# Altium footprint library LPEDT_Parts.PcbLib: 31 footprints (part 2 of 2)
Each footprint in its own frame and in the unit in brackets; x right, y up, seen from the top. Pads: shape width x height; smd on the part's side, far side on the other; paste and mask are expansions set on the pad; w line width, h text height; cw(c..) or ccw(c..) is an arc to the next point about the centre after c.
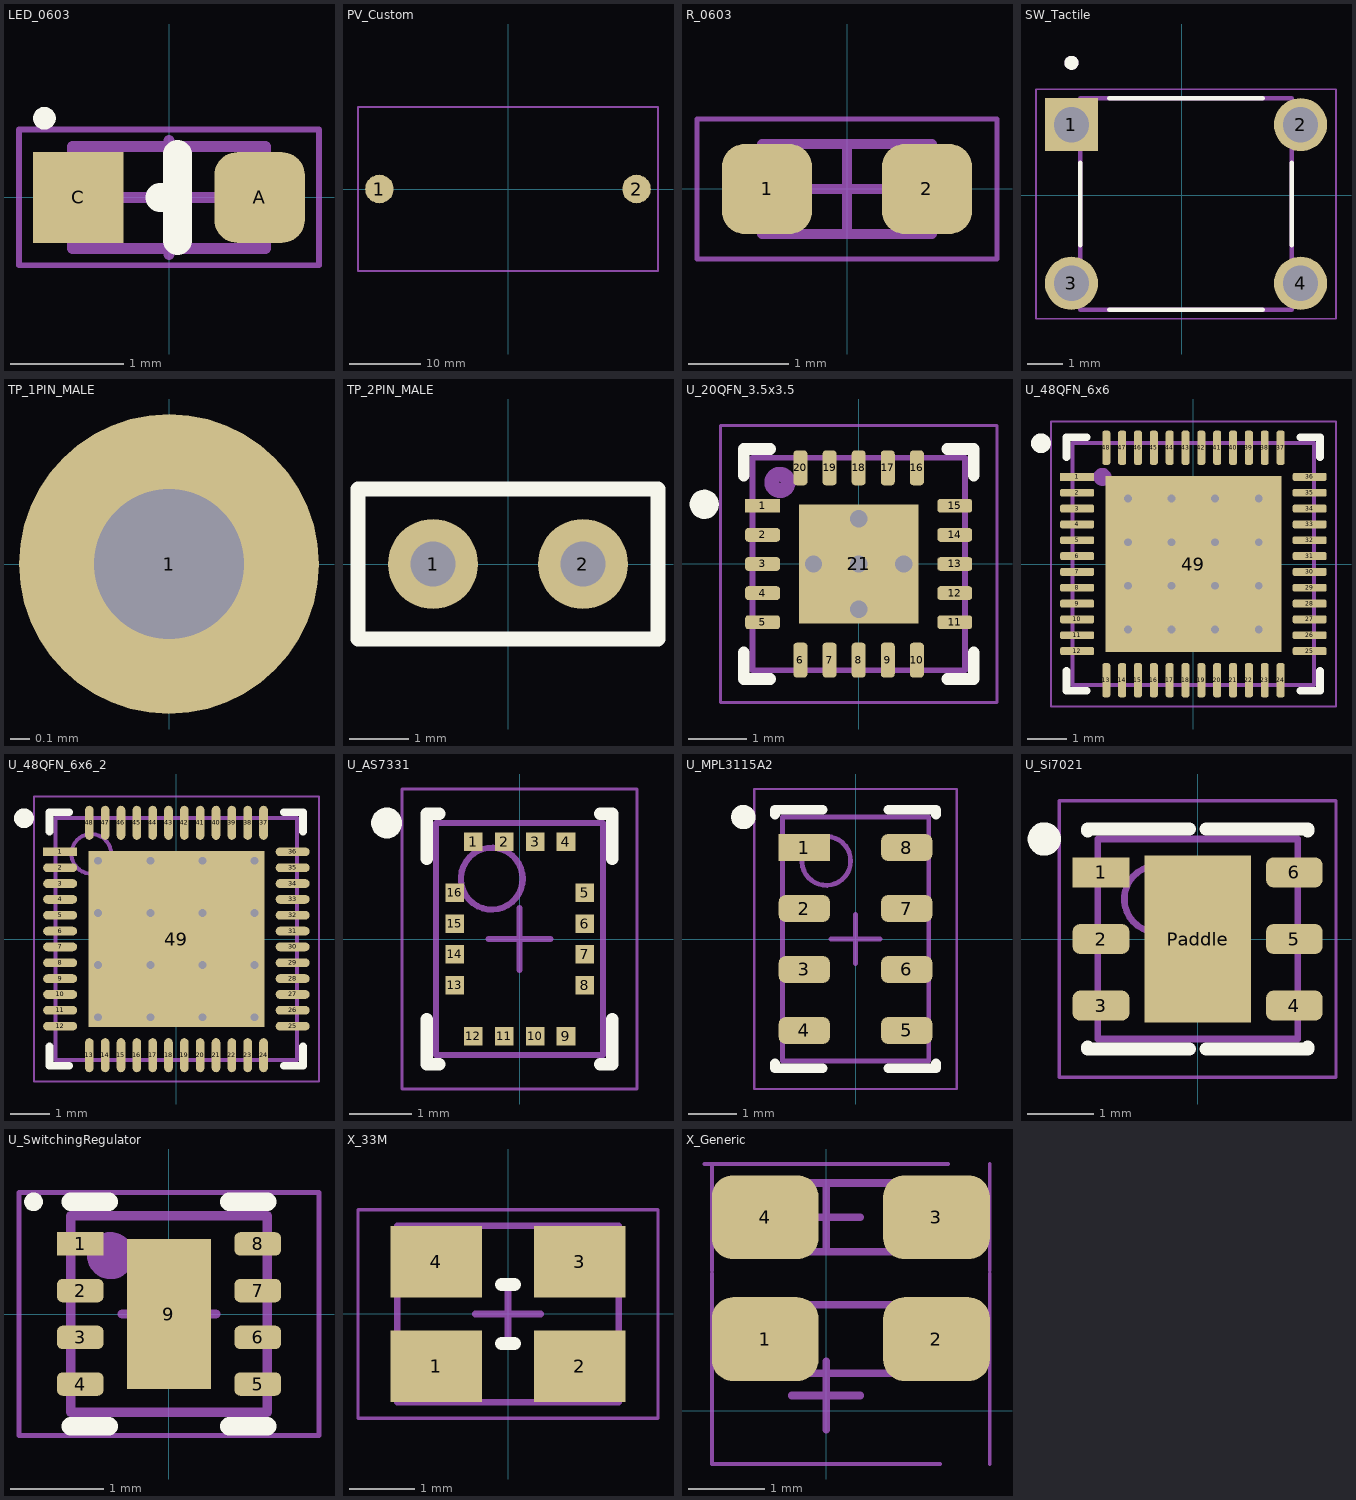
[diagram p1: the footprints below, top view; thin cyan lines are the x and y axes]

## LED_0603 [mm] "SODFL, 2-Leads, Body 0.80x1.80mm, IPC Medium Density"
height 0.8
pads (2):
  rrect50% 0.8x0.8 smd mask+0.06: A(0.8,0)
  rect 0.8x0.8 smd mask+0.06: C(-0.8,0)
Top Overlay:
  circle w0.1: c-1.1,0.7 r0.05
  lines w0.254: -0.079,0 0.076,0 0.076,0.381 0.076,-0.381
Mechanical 13:
  lines w0.1: -0.85,-0.45 0.85,-0.45 0.85,0.45 -0.85,0.45 -0.85,-0.45
  text ".Designator" at -0.723,-0.254 h0.5
Mechanical 15:
  lines w0.05: -1.325,-0.6 1.325,-0.6 1.325,0.6 -1.325,0.6 -1.325,-0.6
  lines w0.1: -0.5,0 0.5,0 ; 0,-0.5 0,0.5
3D body "LED_0603_WURTH_WL-SMCW_base.step": height 0.65, standoff 0.01, extent -0.8,-0.4 0.8,0.4
3D body "LED_0603_WURTH_WL-SMCW_lens.step": height 0.71, standoff 0.31, extent -0.55,-0.4 0.55,0.4

## PV_Custom [mm] "Solar Panel"
height 1
pads (2):
  round 4 smd: 1(-18,0) 2(18,0)
Mechanical 1:
  lines w0.254: -21,0 -21,11.5 ; -21,11.5 -21,-11.5 21,-11.5 21,11.5 -21,11.5

## R_0603 [mm] "Chip Resistor, 2-Leads, Body 1.60x0.80mm, IPC Medium Density"
height 0.55
pads (2):
  rrect50% 0.9x0.9 smd: 1(-0.8,0) 2(0.8,0)
Mechanical 1:
  text ".Designator" at -0.635,-0.254 h0.4
Mechanical 13:
  lines w0.1: -0.85,-0.45 -0.85,0.45 0.85,0.45 0.85,-0.45 -0.85,-0.45
Mechanical 15:
  lines w0.05: -1.5,-0.7 -1.5,0.7 1.5,0.7 1.5,-0.7 -1.5,-0.7
  lines w0.1: -0.45,0 0.45,0 ; 0,-0.45 0,0.45
3D body "0603_1608X05N.step": height 0.45, standoff 0, extent -0.775,-0.425 0.775,0.425

## SW_Tactile [mm] "Tactile, 4-pin pushbutton w/ through hole leads"
pads (4):
  rect 1.508x1.508 / inner round 1.508 / far side rect 1.508x1.508 hole 1: 1(-3.123,1.996)
  round 1.508 hole 1: 2(3.377,1.996) 3(-3.123,-2.504) 4(3.377,-2.504)
Top Overlay:
  circle w0.2: c-3.123,3.75 r0.1
  lines w0.127: -2.873,-1.43 -2.873,0.922 ; -2.049,-3.254 2.303,-3.254 ; -2.049,2.746 2.303,2.746 ; 3.127,-1.43 3.127,0.922
Mechanical 13:
  circle w0.2: c-3.123,3.75 r0.1
  lines w0.127: -2.873,-3.254 -2.873,2.746 3.127,2.746 3.127,-3.254 -2.873,-3.254
  text ".Designator" at -2.286,-1.778 h1.52
Mechanical 15:
  lines w0.05: -4.127,-3.508 4.381,-3.508 4.381,3 -4.127,3 -4.127,-3.508

## TP_1PIN_MALE [mil] "200 mil hole"
pads (1):
  round 60 hole 30: 1(0,0)

## TP_2PIN_MALE [mil] "2-pin, standard male header, 2.54mm pitch"
pads (2):
  round 60 hole 30: 1(-50,0) 2(50,0)
Top Overlay:
  lines w10: -100,-50 -100,50 100,50 100,-50 -100,-50
3D body "61300211121.step": height 286.22, standoff -168.11, extent -100,-50 100,50

## U_20QFN_3.5x3.5 [mm] "QFN Buckboost"
height 1
pads (21):
  rect 0.6x0.24 smd mask+0.07: 1(-1.65,1)
  rrect50% 0.6x0.24 smd mask+0.07: 2(-1.65,0.5) 3(-1.65,0) 4(-1.65,-0.5) 5(-1.65,-1) 11(1.65,-1) 12(1.65,-0.5) 13(1.65,0) 14(1.65,0.5) 15(1.65,1)
  rrect50% 0.24x0.6 smd mask+0.07: 6(-1,-1.65) 7(-0.5,-1.65) 8(0,-1.65) 9(0.5,-1.65) 10(1,-1.65) 16(1,1.65) 17(0.5,1.65) 18(0,1.65) 19(-0.5,1.65) 20(-1,1.65)
  rect 2.05x2.05 smd paste-1 mask+0.07: 21(0,0)
via -0.775,0 diameter 0.5 hole 0.3
via 0,0 diameter 0.5 hole 0.3
via 0,-0.775 diameter 0.5 hole 0.3
via 0.775,0 diameter 0.5 hole 0.3
via 0,0.775 diameter 0.5 hole 0.3
Top Overlay:
  circle w0.25: c-2.65,1.025 r0.125
  lines w0.2: -1.975,-1.52 -1.975,-1.975 -1.52,-1.975 ; -1.975,1.52 -1.975,1.975 -1.52,1.975 ; 1.52,-1.975 1.975,-1.975 1.975,-1.52 ; 1.52,1.975 1.975,1.975 1.975,1.52
Top Paste:
  rectangle: 0.25,0.25 1.02,1.02
  rectangle: 0.25,-1.02 1.02,-0.25
  rectangle: -1.02,0.25 -0.25,1.02
  rectangle: -1.02,-1.02 -0.25,-0.25
Mechanical 13:
  circle w0.254: c-1.35,1.4 r0.141
  lines w0.1: -1.825,-1.825 1.825,-1.825 1.825,1.825 -1.825,1.825 -1.825,-1.825
  text ".Designator" at -1.43,-1.438 h0.65
Mechanical 15:
  lines w0.05: -2.375,-2.375 2.375,-2.375 2.375,2.375 -2.375,2.375 -2.375,-2.375
  lines w0.1: -0.5,0 0.5,0 ; 0,-0.5 0,0.5
3D body "20-QFN_5x5.step": height 1, standoff 0, extent -1.826,-1.826 1.826,1.826

## U_48QFN_6x6 [mm] "QFN, 48-Leads, Body 6.00x6.00mm, Pitch 0.40mm, Thermal Pad 4.45x4.45mm, IPC Medium Density"
height 0.9
pads (49):
  rect 0.86x0.2 smd mask+0.06: 1(-2.935,2.2)
  rrect50% 0.86x0.2 smd mask+0.06: 2(-2.935,1.8) 3(-2.935,1.4) 4(-2.935,1) 5(-2.935,0.6) 6(-2.935,0.2) 7(-2.935,-0.2) 8(-2.935,-0.6) 9(-2.935,-1) 10(-2.935,-1.4) 11(-2.935,-1.8) 12(-2.935,-2.2) 25(2.935,-2.2) 26(2.935,-1.8) 27(2.935,-1.4) 28(2.935,-1) 29(2.935,-0.6) 30(2.935,-0.2) 31(2.935,0.2) 32(2.935,0.6) 33(2.935,1) 34(2.935,1.4) 35(2.935,1.8) 36(2.935,2.2)
  rrect50% 0.2x0.86 smd mask+0.06: 13(-2.2,-2.935) 14(-1.8,-2.935) 15(-1.4,-2.935) 16(-1,-2.935) 17(-0.6,-2.935) 18(-0.2,-2.935) 19(0.2,-2.935) 20(0.6,-2.935) 21(1,-2.935) 22(1.4,-2.935) 23(1.8,-2.935) 24(2.2,-2.935) 37(2.2,2.935) 38(1.8,2.935) 39(1.4,2.935) 40(1,2.935) 41(0.6,2.935) 42(0.2,2.935) 43(-0.2,2.935) 44(-0.6,2.935) 45(-1,2.935) 46(-1.4,2.935) 47(-1.8,2.935) 48(-2.2,2.935)
  rect 4.45x4.45 smd: 49(0,0)
via 1.65,-1.65 diameter 0.5 hole 0.2
via 0.55,-1.65 diameter 0.5 hole 0.2
via -0.55,-1.65 diameter 0.5 hole 0.2
via -1.65,-1.65 diameter 0.5 hole 0.2
via 1.65,-0.55 diameter 0.5 hole 0.2
via 0.55,-0.55 diameter 0.5 hole 0.2
via -0.55,-0.55 diameter 0.5 hole 0.2
via -1.65,-0.55 diameter 0.5 hole 0.2
via 1.65,0.55 diameter 0.5 hole 0.2
via 0.55,0.55 diameter 0.5 hole 0.2
via -0.55,0.55 diameter 0.5 hole 0.2
via -1.65,0.55 diameter 0.5 hole 0.2
via 1.65,1.65 diameter 0.5 hole 0.2
via 0.55,1.65 diameter 0.5 hole 0.2
via -0.55,1.65 diameter 0.5 hole 0.2
via -1.65,1.65 diameter 0.5 hole 0.2
Top Overlay:
  circle w0.25: c-3.85,3.05 r0.125
  lines w0.2: -3.2,-2.7 -3.2,-3.2 -2.7,-3.2 ; -3.2,2.7 -3.2,3.2 -2.7,3.2 ; 2.7,-3.2 3.2,-3.2 3.2,-2.7 ; 2.7,3.2 3.2,3.2 3.2,2.7
Mechanical 13:
  circle w0.254: c-2.3,2.2 r0.1
  lines w0.1: -3.05,-3.05 3.05,-3.05 3.05,3.05 -3.05,3.05 -3.05,-3.05
  text ".Designator" at -2.68,-2.663 h0.65
Mechanical 15:
  lines w0.05: -3.6,-3.6 3.6,-3.6 3.6,3.6 -3.6,3.6 -3.6,-3.6
  lines w0.1: -0.5,0 0.5,0 ; 0,-0.5 0,0.5
3D body: height 0.9, standoff 0, extent -3.05,-3.05 3.05,3.05

## U_48QFN_6x6_2 [mm]
height 0.9
pads (49):
  rect 0.86x0.22 smd mask+0.04: 1(-2.935,2.2)
  oval 0.86x0.22 smd mask+0.04: 2(-2.935,1.8) 3(-2.935,1.4) 4(-2.935,1) 5(-2.935,0.6) 6(-2.935,0.2) 7(-2.935,-0.2) 8(-2.935,-0.6) 9(-2.935,-1) 10(-2.935,-1.4) 11(-2.935,-1.8) 12(-2.935,-2.2) 25(2.935,-2.2) 26(2.935,-1.8) 27(2.935,-1.4) 28(2.935,-1) 29(2.935,-0.6) 30(2.935,-0.2) 31(2.935,0.2) 32(2.935,0.6) 33(2.935,1) 34(2.935,1.4) 35(2.935,1.8) 36(2.935,2.2)
  oval 0.22x0.86 smd mask+0.04: 13(-2.2,-2.935) 14(-1.8,-2.935) 15(-1.4,-2.935) 16(-1,-2.935) 17(-0.6,-2.935) 18(-0.2,-2.935) 19(0.2,-2.935) 20(0.6,-2.935) 21(1,-2.935) 22(1.4,-2.935) 23(1.8,-2.935) 24(2.2,-2.935) 37(2.2,2.935) 38(1.8,2.935) 39(1.4,2.935) 40(1,2.935) 41(0.6,2.935) 42(0.2,2.935) 43(-0.2,2.935) 44(-0.6,2.935) 45(-1,2.935) 46(-1.4,2.935) 47(-1.8,2.935) 48(-2.2,2.935)
  rect 4.45x4.45 smd paste-2539.97 mask+0.04: 49(0,0)
via -1.975,1.975 diameter 0.5 hole 0.2
via -0.658,1.975 diameter 0.5 hole 0.2
via 0.658,1.975 diameter 0.5 hole 0.2
via 1.975,1.975 diameter 0.5 hole 0.2
via -1.975,0.658 diameter 0.5 hole 0.2
via -0.658,0.658 diameter 0.5 hole 0.2
via 0.658,0.658 diameter 0.5 hole 0.2
via 1.975,0.658 diameter 0.5 hole 0.2
via -1.975,-0.658 diameter 0.5 hole 0.2
via -0.658,-0.658 diameter 0.5 hole 0.2
via 0.658,-0.658 diameter 0.5 hole 0.2
via 1.975,-0.658 diameter 0.5 hole 0.2
via -1.975,-1.975 diameter 0.5 hole 0.2
via -0.658,-1.975 diameter 0.5 hole 0.2
via 0.658,-1.975 diameter 0.5 hole 0.2
via 1.975,-1.975 diameter 0.5 hole 0.2
Top Overlay:
  circle w0.25: c-3.85,3.05 r0.125
  lines w0.2: -3.2,-2.71 -3.2,-3.2 -2.71,-3.2 ; -3.2,2.71 -3.2,3.2 -2.71,3.2 ; 2.71,-3.2 3.2,-3.2 3.2,-2.71 ; 2.71,3.2 3.2,3.2 3.2,2.71
Top Paste:
  rectangle: 0.835,-1.799 1.799,-0.835
  rectangle: -0.482,-1.799 0.482,-0.835
  rectangle: -1.798,-1.799 -0.835,-0.835
  rectangle: 0.835,-0.482 1.799,0.482
  rectangle: -0.482,-0.482 0.482,0.482
  rectangle: -1.798,-0.482 -0.835,0.482
  rectangle: 0.835,0.835 1.799,1.799
  rectangle: -0.482,0.835 0.482,1.799
  rectangle: -1.798,0.835 -0.835,1.798
Mechanical 13:
  circle w0.1: c-2.15,2.15 r0.5
  lines w0.1: -3.05,-3.05 -3.05,3.05 3.05,3.05 3.05,-3.05 -3.05,-3.05
  text ".Designator" at -2.725,-2.187 h3.25
Mechanical 15:
  lines w0.05: -3.6,-3.6 -3.6,3.6 3.6,3.6 3.6,-3.6 -3.6,-3.6
  lines w0.1: -0.5,0 0.5,0 ; 0,-0.5 0,0.5
3D body: height 0.9, standoff 0, extent -3.05,-3.05 3.05,3.05

## U_AS7331 [mm] "QFN, 16-Leads, Body 2.60x3.65mm, Pitch 0.50mm, IPC Medium Density"
height 1.19
pads (16):
  rect 0.3x0.3 smd mask+0.048: 1(-0.75,1.575) 2(-0.25,1.575) 3(0.25,1.575) 4(0.75,1.575) 5(1.05,0.75) 6(1.05,0.25) 7(1.05,-0.25) 8(1.05,-0.75) 9(0.75,-1.575) 10(0.25,-1.575) 11(-0.25,-1.575) 12(-0.75,-1.575) 13(-1.05,-0.75) 14(-1.05,-0.25) 15(-1.05,0.25) 16(-1.05,0.75)
Top Overlay:
  circle w0.25: c-2.15,1.875 r0.125
  lines w0.2: -1.5,-1.3 -1.5,-2.025 -1.3,-2.025 ; -1.5,1.3 -1.5,2.025 -1.3,2.025 ; 1.3,-2.025 1.5,-2.025 1.5,-1.3 ; 1.3,2.025 1.5,2.025 1.5,1.3
Mechanical 13:
  circle w0.1: c-0.45,0.975 r0.5
  lines w0.1: -1.35,-1.875 -1.35,1.875 1.35,1.875 1.35,-1.875 -1.35,-1.875
  text ".Designator" at -1.098,-1.298 h0.9
Mechanical 15:
  lines w0.05: -1.9,-2.425 -1.9,2.425 1.9,2.425 1.9,-2.425 -1.9,-2.425
  lines w0.1: -0.5,0 0.5,0 ; 0,-0.5 0,0.5
3D body "U_AS7331.step": height 1.19, standoff 0, extent -1.35,-1.875 1.35,1.875

## U_MPL3115A2 [mm] "QFN, 8-Leads, Body 3.00x5.00mm, Pitch 0.00mm/1.25mm, IPC Medium Density"
height 1.1
pads (8):
  rect 1.05x0.55 smd mask+0.07: 1(-1.05,1.875)
  rrect50% 1.05x0.55 smd mask+0.07: 2(-1.05,0.625) 3(-1.05,-0.625) 4(-1.05,-1.875) 5(1.05,-1.875) 6(1.05,-0.625) 7(1.05,0.625) 8(1.05,1.875)
Top Overlay:
  circle w0.25: c-2.3,2.5 r0.125
  lines w0.2: -1.65,-2.55 -1.65,-2.65 -0.675,-2.65 ; -1.65,2.55 -1.65,2.65 -0.675,2.65 ; 0.675,-2.65 1.65,-2.65 1.65,-2.55 ; 0.675,2.65 1.65,2.65 1.65,2.55
Mechanical 13:
  circle w0.1: c-0.6,1.6 r0.5
  lines w0.1: -1.5,-2.5 -1.5,2.5 1.5,2.5 1.5,-2.5 -1.5,-2.5
  text ".Designator" at -1.098,-1.823 h0.9
Mechanical 15:
  lines w0.05: -2.075,-3.075 -2.075,3.075 2.075,3.075 2.075,-3.075 -2.075,-3.075
  lines w0.1: -0.5,0 0.5,0 ; 0,-0.5 0,0.5
3D body "U_MPL3115A2.step": height 1.1, standoff 0, extent -1.5,-2.5 1.5,2.5

## U_Si7021 [mm] "QFN, 6-Leads, Body 3.00x3.00mm, Pitch 1.00mm, Thermal Pad 1.60x2.50mm, IPC Medium Density"
height 1.21
pads (7):
  rect 0.85x0.45 smd mask+0.062: 1(-1.45,1)
  rrect50% 0.85x0.45 smd mask+0.062: 2(-1.45,0) 3(-1.45,-1) 4(1.45,-1) 5(1.45,0) 6(1.45,1)
  rect 1.6x2.5 smd mask+0.062: Paddle(0,0)
Top Overlay:
  circle w0.25: c-2.3,1.5 r0.125
  lines w0.2: -1.65,-1.625 -1.65,-1.65 -0.125,-1.65 ; -1.65,1.625 -1.65,1.65 -0.125,1.65 ; 0.125,-1.65 1.65,-1.65 1.65,-1.625 ; 0.125,1.65 1.65,1.65 1.65,1.625
Mechanical 13:
  circle w0.1: c-0.6,0.6 r0.5
  lines w0.1: -1.5,-1.5 1.5,-1.5 1.5,1.5 -1.5,1.5 -1.5,-1.5
  text ".Designator" at -1.223,-0.923 h0.9
Mechanical 15:
  lines w0.05: -2.075,-2.075 2.075,-2.075 2.075,2.075 -2.075,2.075 -2.075,-2.075
  lines w0.1: -0.5,0 0.5,0 ; 0,-0.5 0,0.5
3D body "U_Si7021.step": height 1.21, standoff 0, extent -1.5,-1.5 1.5,1.5

## U_SwitchingRegulator [mm] "DFN, 8-Leads, Body 2.00x2.00mm, Pitch 0.50mm, Thermal Pad 1.60x0.69mm, IPC Medium Density"
height 0.8
pads (9):
  rect 0.5x0.25 smd: 1(-0.95,0.75)
  rrect50% 0.5x0.25 smd: 2(-0.95,0.25) 3(-0.95,-0.25) 4(-0.95,-0.75) 5(0.95,-0.75) 6(0.95,-0.25) 7(0.95,0.25) 8(0.95,0.75)
  rect 0.9x1.6 smd paste-1: 9(0,0)
Top Overlay:
  circle w0.1: c-1.45,1.2 r0.05
  lines w0.2: -1.05,-1.2 -0.645,-1.2 ; -1.05,1.2 -0.645,1.2 ; 0.645,-1.2 1.05,-1.2 ; 0.645,1.2 1.05,1.2
Top Paste:
  rectangle: -0.45,0.1 0.45,0.8
  rectangle: -0.45,-0.8 0.45,-0.1
Mechanical 13:
  circle w0.254: c-0.625,0.625 r0.125
  lines w0.1: -1.05,-1.05 -1.05,1.05 1.05,1.05 1.05,-1.05 -1.05,-1.05
  text ".Designator" at -0.88,-0.463 h0.65
Mechanical 15:
  lines w0.05: -1.605,-1.3 -1.605,1.3 1.605,1.3 1.605,-1.3 -1.605,-1.3
  lines w0.1: -0.5,0 0.5,0 ; 0,-0.5 0,0.5
3D body "8-DFN_2X2.step": height 0.8, standoff 0, extent -1.051,-1.05 1.051,1.05

## X_33M [mm]
height 0.8
pads (4):
  rect 1.4x1.1 smd mask+0.06: 1(-1.1,-0.8) 3(1.1,0.8) 4(-1.1,0.8)
  rect 1.4x1.1 smd paste+0 mask+0.06: 2(1.1,-0.8)
Top Overlay:
  lines w0.2: -0.1,-0.45 0.1,-0.45 ; -0.1,0.45 0.1,0.45
Mechanical 13:
  lines w0.1: -1.7,-1.35 1.7,-1.35 1.7,1.35 -1.7,1.35 -1.7,-1.35
  text ".Designator" at -1.435,-0.86 h0.5
Mechanical 15:
  lines w0.05: -2.3,-1.6 2.3,-1.6 2.3,1.6 -2.3,1.6 -2.3,-1.6
  lines w0.1: -0.5,0 0.5,0 ; 0,-0.5 0,0.5
3D body: height 0.8, standoff 0, extent 0.7,-1.35 1.7,1.35
3D body: height 0.8, standoff 0, extent -1.7,-1.35 -0.7,1.35
3D body: height 0.8, standoff 0, extent -0.7,-1.35 0.7,1.35

## X_Generic [mm]
pads (4):
  rrect50% 1.4x1.1 smd mask+0.06: 1(-0.8,0.94) 2(1.45,0.94) 3(1.45,2.54) 4(-0.8,2.54)
Mechanical 1:
  text ".Designator" at -0.635,2.286 h0.4
Mechanical 13:
  lines w0.1: 0.85,0.49 -0.85,0.49 -0.85,1.39 0.85,1.39 ; 0.85,2.09 -0.85,2.09 -0.85,2.99 0.85,2.99 ; 1.5,0.49 1.5,1.39 ; 1.5,2.09 1.5,2.99
Mechanical 15:
  lines w0.05: -1.6,3.24 1.6,3.24 ; -1.5,1.8 -1.5,-0.7 1.5,-0.7 ; -1.5,1.84 -1.5,3.24 ; 2.15,-0.7 2.15,1.8 ; 2.15,1.84 2.15,3.24
  lines w0.1: -0.45,0.2 0.45,0.2 ; -0.45,2.54 0.45,2.54 ; 0,-0.25 0,0.65 ; 0,2.09 0,2.99
3D body "0603_1608X05N.step": height 0.45, standoff 0, extent -0.775,2.115 0.775,2.965
3D body "0603_1608X05N.step": height 0.45, standoff 0, extent -0.775,0.515 0.775,1.365